# EAGLE library part MAX9709 (library Parts)
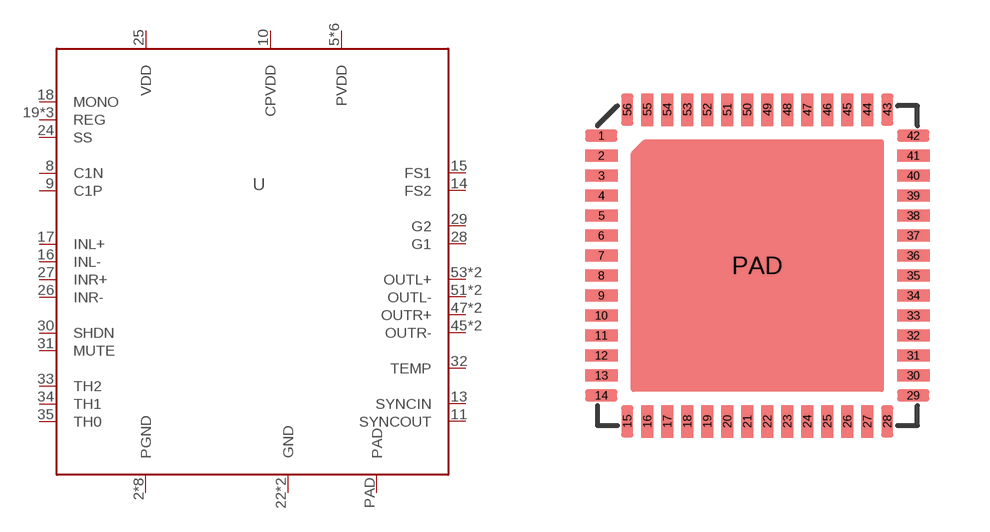
[diagram p6: symbol with the pads of TQFN-EP; footprint TQFN-EP]

Designator prefix -

## MAX9709  [TQFN-EP]
2  PGND
3  PGND
4  PGND
5  PVDD
6  PVDD
7  PVDD
8  C1N
9  C1P
10  CPVDD
11  SYNCOUT
13  SYNCIN
14  FS2
15  FS1
16  INL-
17  INL+
18  MONO
19  REG
20  REG
21  REG
22  GND
23  GND
24  SS
25  VDD
26  INR-
27  INR+
28  G1
29  G2
30  SHDN
31  MUTE
32  TEMP
33  TH2
34  TH1
35  TH0
36  PVDD
37  PVDD
38  PVDD
39  PGND
40  PGND
41  PGND
45  OUTR-
46  OUTR-
47  OUTR+
48  OUTR+
49  PGND
50  PGND
51  OUTL-
52  OUTL-
53  OUTL+
54  OUTL+
PAD  PAD

## Footprint TQFN-EP (pad centres in mm)
smd 0.813 x 0.31: 1 -3.9,3.25; 2 -3.9,2.75; 3 -3.9,2.25; 4 -3.9,1.75; 5 -3.9,1.25; 6 -3.9,0.75; 7 -3.9,0.25; 8 -3.9,-0.25; 9 -3.9,-0.75; 10 -3.9,-1.25; 11 -3.9,-1.75; 12 -3.9,-2.25; 13 -3.9,-2.75; 14 -3.9,-3.25; 29 3.9,-3.25; 30 3.9,-2.75; 31 3.9,-2.25; 32 3.9,-1.75; 33 3.9,-1.25; 34 3.9,-0.75; 35 3.9,-0.25; 36 3.9,0.25; 37 3.9,0.75; 38 3.9,1.25; 39 3.9,1.75; 40 3.9,2.25; 41 3.9,2.75; 42 3.9,3.25
smd 0.31 x 0.813: 15 -3.25,-3.9; 16 -2.75,-3.9; 17 -2.25,-3.9; 18 -1.75,-3.9; 19 -1.25,-3.9; 20 -0.75,-3.9; 21 -0.25,-3.9; 22 0.25,-3.9; 23 0.75,-3.9; 24 1.25,-3.9; 25 1.75,-3.9; 26 2.25,-3.9; 27 2.75,-3.9; 28 3.25,-3.9; 43 3.25,3.9; 44 2.75,3.9; 45 2.25,3.9; 46 1.75,3.9; 47 1.25,3.9; 48 0.75,3.9; 49 0.25,3.9; 50 -0.25,3.9; 51 -0.75,3.9; 52 -1.25,3.9; 53 -1.75,3.9; 54 -2.25,3.9; 55 -2.75,3.9; 56 -3.25,3.9
smd 1.27 x 0.635: PAD 0,0